# EAGLE library part IF_WIFI_SDIO_RTL8189FTV-VC-CG (library !GPLIB_ACTIVE)
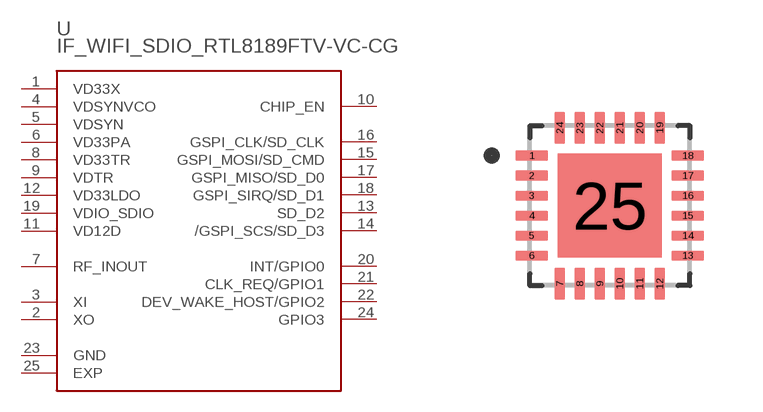
[diagram p85: symbol with the pads of QFN50P400X400X90-25N; footprint QFN50P400X400X90-25N]

Designator prefix U

## IF_WIFI_SDIO_RTL8189FTV-VC-CG  [QFN50P400X400X90-25N]
1  VD33X  pwr
2  XO
3  XI
4  VDSYNVCO  pwr
5  VDSYN  pwr
6  VD33PA  pwr
7  RF_INOUT
8  VD33TR  pwr
9  VDTR  pwr
10  CHIP_EN
11  VD12D  pwr
12  VD33LDO  pwr
13  SD_D2
14  /GSPI_SCS/SD_D3
15  GSPI_MOSI/SD_CMD
16  GSPI_CLK/SD_CLK
17  GSPI_MISO/SD_D0
18  GSPI_SIRQ/SD_D1
19  VDIO_SDIO  pwr
20  INT/GPIO0
21  CLK_REQ/GPIO1
22  DEV_WAKE_HOST/GPIO2
23  GND  pwr
24  GPIO3
25  EXP  pas

## Footprint QFN50P400X400X90-25N (pad centres in mm)
smd 0.81 x 0.26: 1 -1.95,1.25; 2 -1.95,0.75; 3 -1.95,0.25; 4 -1.95,-0.25; 5 -1.95,-0.75; 6 -1.95,-1.25; 13 1.95,-1.25; 14 1.95,-0.75; 15 1.95,-0.25; 16 1.95,0.25; 17 1.95,0.75; 18 1.95,1.25
smd 0.26 x 0.81: 7 -1.25,-1.95; 8 -0.75,-1.95; 9 -0.25,-1.95; 10 0.25,-1.95; 11 0.75,-1.95; 12 1.25,-1.95; 19 1.25,1.95; 20 0.75,1.95; 21 0.25,1.95; 22 -0.25,1.95; 23 -0.75,1.95; 24 -1.25,1.95
smd 2.6 x 2.6: 25 0,0